# EAGLE library part ACT4513 (library Active-Semi)
Wide-Input Sensorless CC/CV Step-Down DC/DC Converter
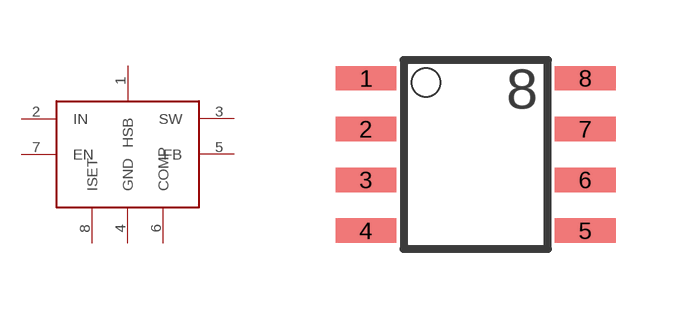
[diagram p0: symbol with the pads of SOP-8EP; footprint SOP-8EP]

Designator prefix -

## ACT4513 (MF: Active-Semi; MPN: ACT4513YH-T)  [SOP-8EP]
1  HSB
2  IN
3  SW
4  GND
5  FB
6  COMP
7  EN
8  ISET

## Footprint SOP-8EP (pad centres in mm)
smd 1.524 x 0.61: 1 -1.473,7.62; 2 -1.473,6.35; 3 -1.473,5.08; 4 -1.473,3.81; 5 4.013,3.81; 6 4.013,5.08; 7 4.013,6.35; 8 4.013,7.62